# EAGLE library part FT230X (library bytewerk-network)
USB-2-UART 300 Mbaud
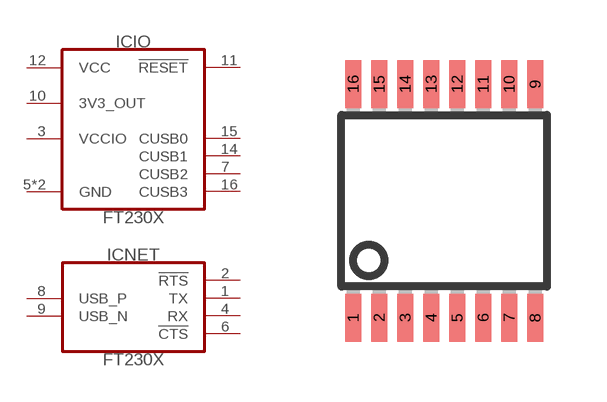
[diagram p8: symbol with the pads of SSOP-16; footprint SSOP-16]

Designator prefix IC; gates IO=FT230X-IO NET=FT230X-NET

## FT230X (MF: FTDI; MFP: FT230XS; OC_FARNELL: 2081321)  [SSOP-16]
1  NET:TX  out
2  NET:!RTS!  out
3  IO:VCCIO  pwr
4  NET:RX  in
5  IO:GND  pwr
6  NET:!CTS!  in
7  IO:CUSB2
8  NET:USB_P  in
9  NET:USB_N  in
10  IO:3V3_OUT  pas
11  IO:!RESET!  in
12  IO:VCC  pwr
13  IO:GND  pwr
14  IO:CUSB1
15  IO:CUSB0
16  IO:CUSB3

## Footprint SSOP-16 (pad centres in mm)
smd 0.4 x 1.2: 1 -2.275,-2.925; 2 -1.625,-2.925; 3 -0.975,-2.925; 4 -0.325,-2.925; 5 0.325,-2.925; 6 0.975,-2.925; 7 1.625,-2.925; 8 2.275,-2.925; 9 2.275,2.925; 10 1.625,2.925; 11 0.975,2.925; 12 0.325,2.925; 13 -0.325,2.925; 14 -0.975,2.925; 15 -1.625,2.925; 16 -2.275,2.925